# EAGLE library part LTC4095 (library Pinoccio)
Linear Technology LTC4095 Li-Ion Charge Controller Packages: DFN-8
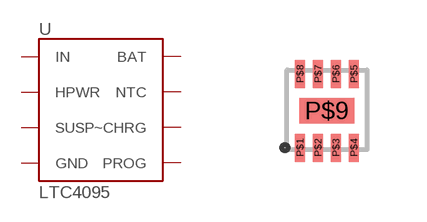
[diagram p15: symbol with the pads of DFN-8; footprint DFN-8]

Designator prefix -

## LTC4095DFN-8  [DFN-8]
P$1  BAT
P$2  GND
P$3  ~CHRG  out
P$4  SUSP  in
P$5  HPWR  in
P$6  NTC  in
P$7  PROG
P$8  IN
P$9  GND

## Footprint DFN-8 (pad centres in mm)
smd 0.25 x 0.7: P$1 0.125,0.35; P$2 0.575,0.35; P$3 1.025,0.35; P$4 1.475,0.35; P$5 1.475,2.2; P$6 1.025,2.2; P$7 0.575,2.2; P$8 0.125,2.2
smd 1.37 x 0.64: P$9 0.8,1.275